# Altium footprint library RespiradorLib.PcbLib: 32 footprints (part 2 of 2)
Each footprint in its own frame and in the unit in brackets; x right, y up, seen from the top. Pads: shape width x height; smd on the part's side, far side on the other; paste and mask are expansions set on the pad; w line width, h text height; cw(c..) or ccw(c..) is an arc to the next point about the centre after c.
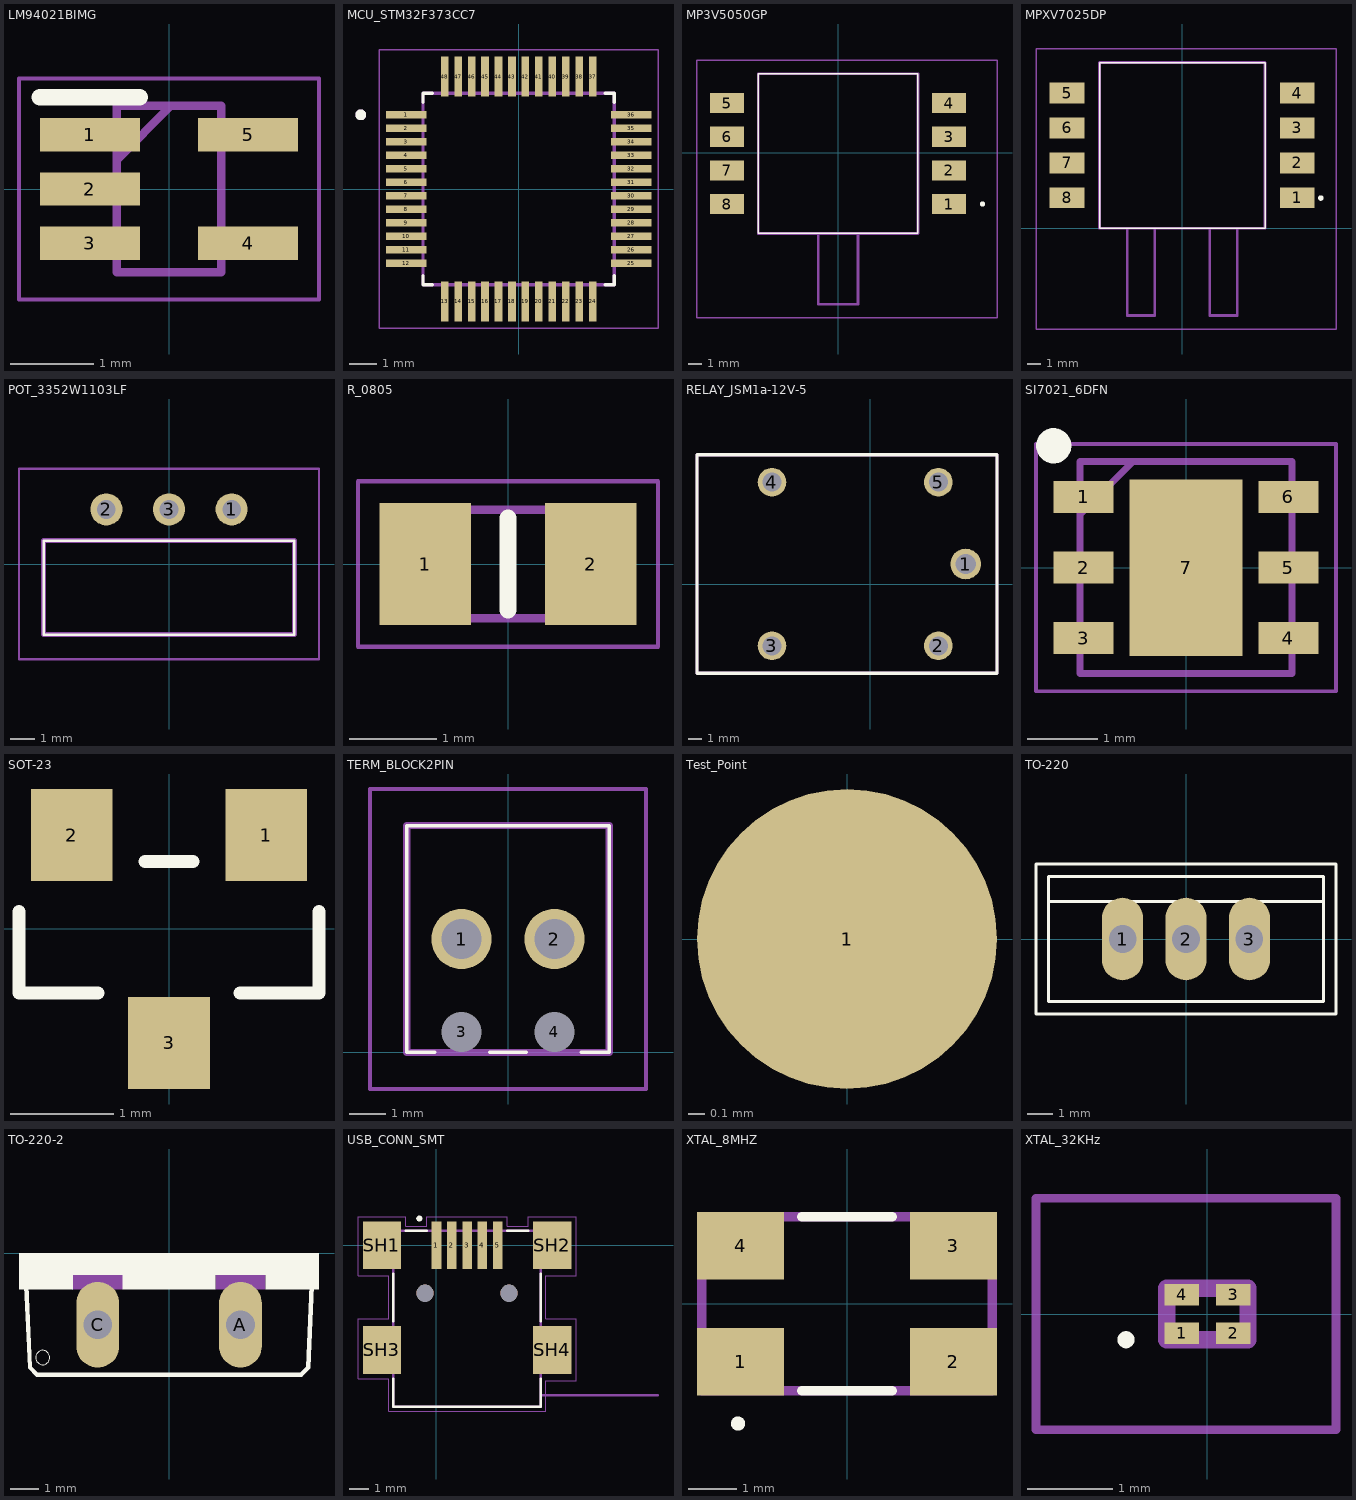
[diagram p1: the footprints below, top view; thin cyan lines are the x and y axes]

## LM94021BIMG [mm]
pads (5):
  rect 1.2x0.4 smd: 1(-0.95,0.65) 2(-0.95,0) 3(-0.95,-0.65) 4(0.95,-0.65) 5(0.95,0.65)
Top Overlay:
  lines w0.2: -1.55,1.1 -0.35,1.1
Mechanical 13:
  lines w0.1: -0.625,0.35 0.025,1 ; -0.625,-1 0.625,-1 0.625,1 -0.625,1 -0.625,-1
Mechanical 15:
  lines w0.05: -1.8,-1.325 1.8,-1.325 1.8,1.325 -1.8,1.325 -1.8,-1.325
3D body "LM94021BIMG_NOPB.stp": height 1.1, standoff 0, extent -1.05,-1 1.05,1

## MCU_STM32F373CC7 [mm]
pads (48):
  rect 1.49x0.28 smd: 1(-4.17,2.75) 2(-4.17,2.25) 3(-4.17,1.75) 4(-4.17,1.25) 5(-4.17,0.75) 6(-4.17,0.25) 7(-4.17,-0.25) 8(-4.17,-0.75) 9(-4.17,-1.25) 10(-4.17,-1.75) 11(-4.17,-2.25) 12(-4.17,-2.75) 25(4.17,-2.75) 26(4.17,-2.25) 27(4.17,-1.75) 28(4.17,-1.25) 29(4.17,-0.75) 30(4.17,-0.25) 31(4.17,0.25) 32(4.17,0.75) 33(4.17,1.25) 34(4.17,1.75) 35(4.17,2.25) 36(4.17,2.75)
  rect 0.28x1.49 smd: 13(-2.75,-4.17) 14(-2.25,-4.17) 15(-1.75,-4.17) 16(-1.25,-4.17) 17(-0.75,-4.17) 18(-0.25,-4.17) 19(0.25,-4.17) 20(0.75,-4.17) 21(1.25,-4.17) 22(1.75,-4.17) 23(2.25,-4.17) 24(2.75,-4.17) 37(2.75,4.17) 38(2.25,4.17) 39(1.75,4.17) 40(1.25,4.17) 41(0.75,4.17) 42(0.25,4.17) 43(-0.25,4.17) 44(-0.75,4.17) 45(-1.25,4.17) 46(-1.75,4.17) 47(-2.25,4.17) 48(-2.75,4.17)
Top Overlay:
  circle w0.2: c-5.86,2.75 r0.1
  lines w0.127: -3.55,-3.21 -3.55,-3.55 -3.21,-3.55 ; -3.55,3.21 -3.55,3.55 -3.21,3.55 ; 3.21,-3.55 3.55,-3.55 3.55,-3.21 ; 3.21,3.55 3.55,3.55 3.55,3.21
Mechanical 13:
  circle w0.2: c-5.86,2.75 r0.1
  circle w0.2: c-5.86,2.75 r0.1
  lines w0.127: -3.55,-3.55 -3.55,3.55 ; -3.55,-3.55 3.55,-3.55 ; -3.55,-3.55 -3.55,3.55 ; -3.55,-3.55 3.55,-3.55 ; -3.55,3.55 3.55,3.55 ; -3.55,3.55 3.55,3.55 ; 3.55,-3.55 3.55,3.55 ; 3.55,-3.55 3.55,3.55
Mechanical 15:
  lines w0.05: -5.165,-5.165 -5.165,5.165 5.165,5.165 5.165,-5.165 -5.165,-5.165
3D body "STM32F070CBT6--3DModel-STEP-56544 (1).STEP": height 1.56, standoff -0.04, extent -4.5,-4.5 4.5,4.5

## MP3V5050GP [mm]
pads (8):
  rect 2.54x1.52 smd: 1(8.38,-3.878) 2(8.38,-1.338) 3(8.38,1.202) 4(8.38,3.742) 5(-8.38,3.742) 6(-8.38,1.202) 7(-8.38,-1.338) 8(-8.38,-3.878)
Top Overlay:
  lines w0.1: -6.032,-6.1 6.032,-6.1 6.032,5.965 -6.032,5.965 -6.032,-6.1
  lines w0.2: 11,-3.877 cw(c10.9,-3.877) 10.8,-3.877 cw(c10.9,-3.878) 11.001,-3.878
Mechanical 13:
  lines w0.2: -1.5,-6.1 -1.5,-11.45 1.5,-11.45 1.5,-6.1 ; -6.032,-6.1 6.032,-6.1 6.032,5.965 -6.032,5.965 -6.032,-6.1
Mechanical 15:
  lines w0.1: -10.65,-12.45 12,-12.45 12,6.965 -10.65,6.965 -10.65,-12.45
3D body "MP3V5050DP--3DModel-STEP-56544.STEP": height 8.64, standoff 0, extent -9.106,-12.382 9.106,6.033

## MPXV7025DP [mm]
pads (8):
  rect 2.54x1.52 smd: 1(8.38,2.223) 2(8.38,4.763) 3(8.38,7.303) 4(8.38,9.843) 5(-8.38,9.843) 6(-8.38,7.303) 7(-8.38,4.763) 8(-8.38,2.223)
Top Overlay:
  lines w0.1: -6,0 6.032,0 6.032,12.065 -6,12.065 -6,0
  lines w0.2: 10,2.2 cw(c10.1,2.2) 10.2,2.2 cw(c10.1,2.2) 10,2.2
Mechanical 13:
  lines w0.2: -4,0 -4,-6.35 -2,-6.35 -2,0 ; 2,0 2,-6.35 4,-6.35 4,0 ; -6.032,0 6.032,0 6.032,12.065 -6.032,12.065 -6.032,0
Mechanical 15:
  lines w0.1: -10.65,-7.35 11.2,-7.35 11.2,13.065 -10.65,13.065 -10.65,-7.35
3D body "MPXV7002.step": height 10.41, standoff -0.25, extent -8.795,-6.731 9.049,12.192

## POT_3352W1103LF [mm]
pads (3):
  round 1.303 hole 0.76: 1(2.54,2.214) 2(-2.54,2.214) 3(0,2.214)
Top Overlay:
  lines w0.1: -5.08,-2.866 5.08,-2.866 5.08,0.944 -5.08,0.944 -5.08,-2.866
Mechanical 13:
  lines w0.2: -5.08,-2.866 5.08,-2.866 5.08,0.944 -5.08,0.944 -5.08,-2.866
Mechanical 15:
  lines w0.1: -6.08,-3.866 6.08,-3.866 6.08,3.866 -6.08,3.866 -6.08,-3.866
3D body "3352W-1-103LF.stp": height 8.1, standoff -5, extent -5.08,-2.866 5.08,2.493

## R_0805 [mm]
pads (2):
  rect 1.05x1.4 smd: 1(-0.95,0) 2(0.95,0)
Top Overlay:
  lines w0.2: 0,-0.525 0,0.525
Mechanical 13:
  lines w0.1: -1,-0.625 1,-0.625 1,0.625 -1,0.625 -1,-0.625
Mechanical 15:
  lines w0.05: -1.725,-0.95 1.725,-0.95 1.725,0.95 -1.725,0.95 -1.725,-0.95
3D body "ERJ-6ENF1693V.stp": height 0.7, standoff 0, extent -1,-0.625 1,0.625

## RELAY_JSM1a-12V-5 [mm]
pads (5):
  round 2.25 hole 1.5: 1(7,1.5)
  round 2.1 hole 1.4: 2(5,-4.5) 3(-7.2,-4.5) 4(-7.2,7.5) 5(5,7.5)
Top Overlay:
  lines w0.254: -12.7,-6.5 9.3,-6.5 9.3,9.5 -12.7,9.5 -12.7,-6.5
Mechanical 13:
  lines w0.254: -12.7,-6.5 9.3,-6.5 9.3,9.5 -12.7,9.5 -12.7,-6.5
3D body "User Library-PANASONIC RELAY AUTO MINI SPDT 15A 12VDC - JSM1-12V-5-1.STEP": height 16, standoff -3.9, extent -12.7,-6.5 9.3,9.5

## SI7021_6DFN [mm]
pads (7):
  rect 0.85x0.45 smd: 1(-1.45,1) 2(-1.45,0) 3(-1.45,-1) 4(1.45,-1) 5(1.45,0) 6(1.45,1)
  rect 1.6x2.5 smd: 7(0,0)
Top Overlay:
  circle w0.25: c-1.875,1.725 r0.125
Mechanical 13:
  lines w0.1: -1.5,0.75 -0.75,1.5 ; -1.5,-1.5 -1.5,1.5 1.5,1.5 1.5,-1.5 -1.5,-1.5
Mechanical 15:
  lines w0.05: -2.125,-1.75 -2.125,1.75 2.125,1.75 2.125,-1.75 -2.125,-1.75
3D body "Si7021-A20-GM1R.stp": height 1.21, standoff 0, extent -1.55,-1.5 1.55,1.5

## SOT-23 [mil]
pads (3):
  rect 31x35 smd: 1(37,35.69) 2(-37,35.69) 3(0,-43.31)
Top Overlay:
  lines w5: -57,6.69 -57,-24.31 -27,-24.31 ; -9,25.69 9,25.69 ; 27,-24.31 57,-24.31 57,6.69
3D body "CircuitWorks-SOT-23.step": height 41.65, standoff -1.65, extent -59.06,-53.15 59.05,45.27

## TERM_BLOCK2PIN [mm]
pads (4):
  round 1.65 hole 1.1: 1(-1.27,3.1) 2(1.27,3.1)
  round 0.55 hole 1.1 unplated: 3(-1.27,0.56) 4(1.27,0.56)
Top Overlay:
  lines w0.1: -2,0 -2.77,0 -2.77,6.2 2.77,6.2 2.77,0 2,0 ; -0.5,0 0.5,0
Mechanical 13:
  lines w0.2: -2.77,0 -2.77,6.2 2.77,6.2 2.77,0 -2.77,0
Mechanical 15:
  lines w0.1: -3.77,-1 -3.77,7.2 3.77,7.2 3.77,-1 -3.77,-1
3D body "1725656.stp": height 8, standoff -5, extent -2.77,0 2.77,6.2

## Test_Point [mil]
pads (1):
  round 70 smd: 1(0,0)

## TO-220 [mm]
pads (3):
  oval 1.65x3.3 hole 1.1: 1(-2.54,0) 2(0,0) 3(2.54,0)
Top Overlay:
  lines w0.127: -5.5,1.5 -5.5,2.5 5.5,2.5 5.5,1.5 ; -5.5,1.5 -5.5,-2.5 5.5,-2.5 5.5,1.5 ; -5.5,1.5 5.5,1.5 ; -6,-3 -6,3 6,3 6,-3 -6,-3
3D body "L7805CV--3DModel-STEP-56544.STEP": height 15.5, standoff -13.4, extent -5.08,-2.286 5.12,2.214

## TO-220-2 [mil]
pads (2):
  oval 60x120 hole 40: A(100,-100) C(-100,-100)
Top Overlay:
  circle w0: c-177,-146 r10
  region: -210.06,0 210,0 210,-30.01 -210.06,-30.01
  region: -210.27,-30 -135,-30 -135,-50.07 -210.27,-50.07
  region: 135.16,-30 210,-30 210,-50.06 135.16,-50.06
  region: -65.13,-30 65,-30 65,-50.1 -65.13,-50.1
  lines w6: -200,-45 -195,-160 -185,-170 185,-170 195,-160 200,-45
Mechanical 13:
  region: -135.19,-30 -65,-30 -65,-50.07 -135.19,-50.07
  region: 65.09,-30 135,-30 135,-50.07 65.09,-50.07
  region: -135.19,-30 -65,-30 -65,-50.07 -135.19,-50.07
  region: 65.09,-30 135,-30 135,-50.07 65.09,-50.07
3D body "L7805CV--3DModel-STEP-56544.STEP": height 610.24, standoff -527.56, extent -200,-175 201.57,2.16

## USB_CONN_SMT [mm]
pads (11):
  rect 0.5x2.5 smd: 1(0,0) 2(0.8,0) 3(1.6,0) 4(2.4,0) 5(3.2,0)
  round 0.9 hole 0.9 unplated: None(-0.6,-2.51) None(3.8,-2.51)
  rect 2x2.5 smd: SH1(-2.86,0) SH2(6.06,0) SH3(-2.86,-5.48) SH4(6.06,-5.48)
Top Overlay:
  circle w0.16: c-0.9,1.4 r0.08
  lines w0.127: -2.26,-6.98 -2.26,-8.45 5.46,-8.45 5.46,-6.98 ; -2.26,-3.98 -2.26,-1.5 ; -1.61,0.75 -0.5,0.75 ; 3.7,0.75 4.81,0.75 ; 5.46,-3.98 5.46,-1.5
Mechanical 13:
  circle w0.16: c0,0.15 r0.08
  circle w0.16: c0,0.15 r0.08
  lines w0.127: -2.26,-8.45 5.46,-8.45 ; -2.26,-8.45 -2.26,0.75 ; -2.26,-8.45 5.46,-8.45 ; -2.26,-8.45 -2.26,0.75 ; -2.26,0.75 5.46,0.75 ; -2.26,0.75 5.46,0.75 ; 5.46,-8.45 5.46,-7.85 ; 5.46,-8.45 5.46,-7.85 ; 5.46,-7.85 5.46,0.75 ; 5.46,-7.85 11.6,-7.85 5.46,-7.85 ; 5.46,-7.85 5.46,0.75
  text "PCB EDGE" at 5.856,-9.109 h1.88
  text "PCB EDGE" at 5.856,-9.109 h1.88
Mechanical 15:
  lines w0.05: -4.11,-6.98 -4.11,-3.85 -2.51,-3.85 -2.51,-1.6 -4.11,-1.6 -4.11,1.5 -1.61,1.5 -1.61,1 -0.5,1 -0.5,1.5 3.7,1.5 3.7,1 4.81,1 4.81,1.5 7.31,1.5 7.31,-1.6 5.71,-1.6 5.71,-3.85 7.31,-3.85 7.31,-7.1 5.71,-7.1 5.71,-8.7 -2.51,-8.7 -2.51,-6.98 -4.11,-6.98
3D body "CUI_DEVICES_UJ2-MBH-2-SMT.step": height 4.03, standoff -0.87, extent -3.306,-8.481 6.354,0.919

## XTAL_8MHZ [mm]
pads (4):
  rect 1.8x1.4 smd: 1(-2.2,-1.2) 2(2.2,-1.2) 3(2.2,1.2) 4(-2.2,1.2)
Top Overlay:
  circle w0.2: c-2.252,-2.475 r0.047
  lines w0.2: -0.938,-1.8 0.938,-1.8 ; -0.938,1.8 0.938,1.8
Mechanical 13:
  lines w0.2: -3,-1.8 -3,1.8 3,1.8 3,-1.8 -3,-1.8

## XTAL_32KHz [mm]
pads (4):
  rect 0.4x0.25 smd: 1(-0.3,-0.225) 2(0.3,-0.225) 3(0.3,0.225) 4(-0.3,0.225)
Top Overlay:
  lines w0.1: -1,-0.3 cw(c-0.95,-0.3) -0.9,-0.3 cw(c-0.95,-0.3) -1,-0.3
Mechanical 13:
  lines w0.2: -0.475,-0.3 -0.475,0.3 0.475,0.3 0.475,-0.3 -0.475,-0.3
Mechanical 15:
  lines w0.1: -2,-1.35 -2,1.35 1.5,1.35 1.5,-1.35 -2,-1.35
3D body "WMRAG32K76CS1C00R0.stp": height 0.45, standoff 0, extent -0.475,-0.325 0.475,0.325